# Altium footprint library 3 Digit 14 Segment Component.PcbLib: 2 footprints
Each footprint in its own frame and in the unit in brackets; x right, y up, seen from the top. Pads: shape width x height; smd on the part's side, far side on the other; paste and mask are expansions set on the pad; w line width, h text height; cw(c..) or ccw(c..) is an arc to the next point about the centre after c.
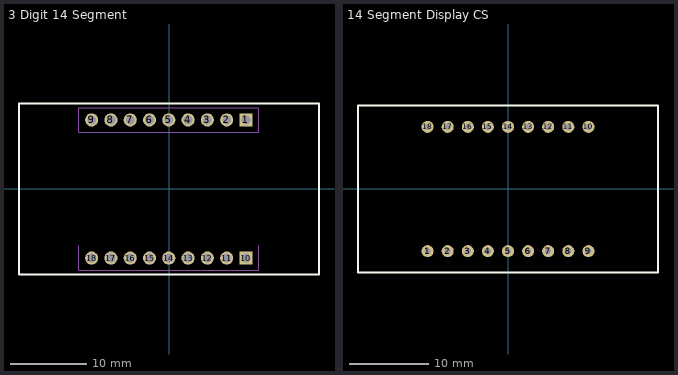
[diagram p0: the footprints below, top view; thin cyan lines are the x and y axes]

## 3 Digit 14 Segment [mm]
pads (18):
  rect 1.725x1.725 hole 1.15: 1(10.125,9.084) 10(10.125,-9.103)
  round 1.725 hole 1.15: 2(7.585,9.084) 3(5.045,9.084) 4(2.505,9.084) 5(-0.035,9.084) 6(-2.575,9.084) 7(-5.115,9.084) 8(-7.655,9.084) 9(-10.195,9.084) 11(7.585,-9.103) 12(5.045,-9.103) 13(2.505,-9.103) 14(-0.035,-9.103) 15(-2.575,-9.103) 16(-5.115,-9.103) 17(-7.655,-9.103) 18(-10.195,-9.103)
Top Overlay:
  lines w0.254: -19.758,-11.227 -19.758,11.227 ; -19.736,-11.258 19.742,-11.258 19.742,11.227 ; -19.736,11.242 19.71,11.242
Mechanical 15:
  lines w0.05: -11.865,-7.483 -11.865,-10.723 11.795,-10.723 11.795,-7.483 ; -11.865,7.464 -11.865,10.704 11.795,10.704 11.795,7.464 -11.865,7.464
3D body "14seg LED Rohm Matched.STEP": height 8.01, standoff -6.02, extent -20.282,-12.386 20.218,12.114
3D body "61300911121.stp": height 8.74, standoff -3.2, extent -11.465,7.814 11.395,10.354
3D body "61300911121.stp": height 8.74, standoff -3.2, extent -11.465,-10.373 11.395,-7.833

## 14 Segment Display CS [mil]
pads (18):
  round 60 hole 30: 1(-400,-309.06) 2(-300,-309.06) 3(-200,-309.06) 4(-100,-309.06) 5(0,-309.06) 6(100,-309.06) 7(200,-309.06) 8(300,-309.06) 9(400,-309.06) 10(400,309.06) 11(300,309.06) 12(200,309.06) 13(100,309.06) 14(0,309.06) 15(-100,309.06) 16(-200,309.06) 17(-300,309.06) 18(-400,309.06)
Top Overlay:
  lines w10: -746.06,-415.35 -746.06,415.35 746.06,415.35 746.06,-415.35 -746.06,-415.35